# Altium schematic symbol library NPI54C3R3MTRF.SchLib: 1 symbol
Pins are listed as number, name and electrical type; pins without a type are passive.

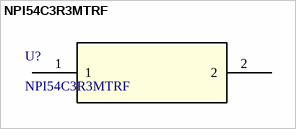
[diagram p0: symbol NPI54C3R3MTRF]

## NPI54C3R3MTRF
designator U?
No Description Available; Mfr_Name: NIC Components Corp.; Copyright: Copyright (C) 2024 Ultra Librarian. All rights reserved.; Manufacturer_Part_Number: NPI54C3R3MTRF; RefDes: RefDes; Type: DEV
footprint NPI54C3R3MTRF_NIC
pins: 1, 2